# Altium schematic symbol library ERJ-3EKF4750V.SchLib: 1 symbol
Pins are listed as number, name and electrical type; pins without a type are passive.

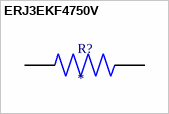
[diagram p0: symbol ERJ3EKF4750V]

## ERJ3EKF4750V
designator R?
MF: {'manufacturer': u'Panasonic'}; MP: ERJ3EKF4750V; Package: None; Price: None; Value: *; Availability: Unavailable
footprint RES_ERJ3EKF4750V
pins: 1, 2